# Altium footprint library FLATPACK-10.PcbLib: 1 footprints
Each footprint in its own frame and in the unit in brackets; x right, y up, seen from the top. Pads: shape width x height; smd on the part's side, far side on the other; paste and mask are expansions set on the pad; w line width, h text height; cw(c..) or ccw(c..) is an arc to the next point about the centre after c.
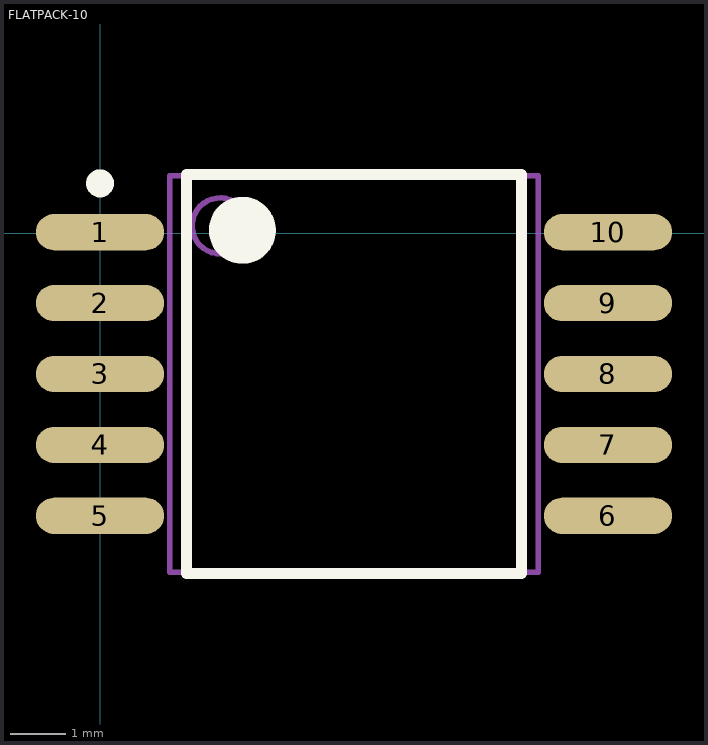
[diagram p0: the footprint, top view; thin cyan lines are the x and y axes]

## FLATPACK-10 [mm] "CFP, 10-Leads, Body 7,11x6,60mm (max), Pitch 1,27mm, IPC Medium Density"
height 2.29
pads (10):
  oval 2.3x0.65 smd: 1(0,0.015) 2(0,-1.255) 3(0,-2.525) 4(0,-3.795) 5(0,-5.065) 6(9.1,-5.065) 7(9.1,-3.795) 8(9.1,-2.525) 9(9.1,-1.255) 10(9.1,0.015)
Top Overlay:
  circle w0.25: c0,0.89 r0.125
  circle w0.6: c2.55,0.05 r0.3
  lines w0.2: 1.55,-6.1 7.55,-6.1 7.55,1.05 1.55,1.05 1.55,-6.1
Mechanical 13:
  circle w0.1: c2.15,0.13 r0.5
  lines w0.1: 1.25,-6.08 7.85,-6.08 7.85,1.03 1.25,1.03 1.25,-6.08
3D body "FLATPACK-10_.step": height 2.29, standoff 0, extent -0.74,-6.08 9.84,1.03